# Altium footprint library potentiometer (Piher).PcbLib: 1 footprints
Each footprint in its own frame and in the unit in brackets; x right, y up, seen from the top. Pads: shape width x height; smd on the part's side, far side on the other; paste and mask are expansions set on the pad; w line width, h text height; cw(c..) or ccw(c..) is an arc to the next point about the centre after c.
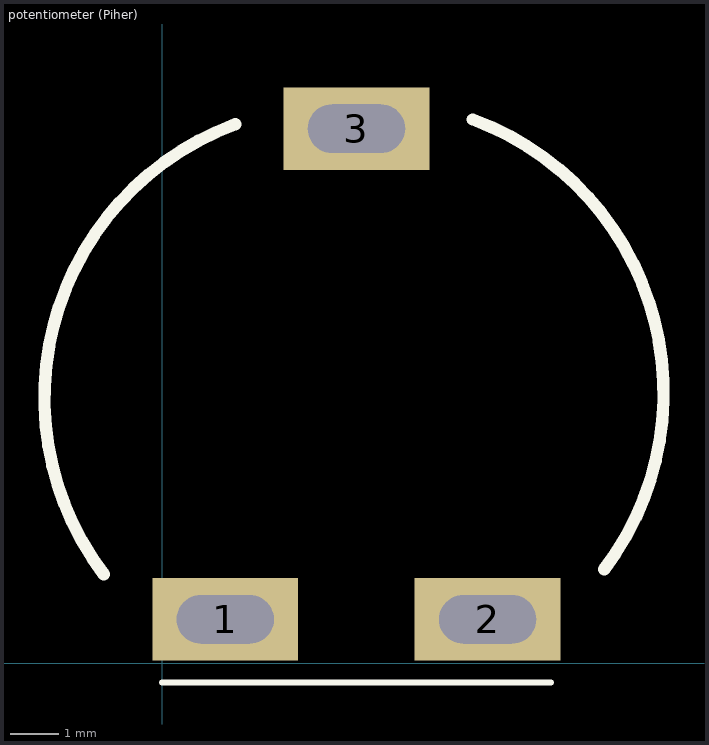
[diagram p0: the footprint, top view; thin cyan lines are the x and y axes]

## potentiometer (Piher) [mm]
pads (3):
  rect 3x1.7 hole 1 slot 2 at 0 deg: 1(1.3,0.9) 2(6.7,0.9) 3(4,11)
Top Overlay:
  lines w0.13: 0,-0.4 8,-0.4
  lines w0.254: -1.202,1.83 cw(c3.578,5.458) 1.503,11.089 ; 6.397,11.189 cw(c4.322,5.558) 9.102,1.93